# Altium schematic symbol library MQ.SchLib: 1 symbol
Pins are listed as number, name and electrical type; pins without a type are passive.

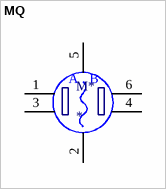
[diagram p0: symbol MQ]

## MQ
designator M*
pins: 1, 2, 3, 4, 5, 6
text: A; B